# Altium footprint library OSCCC320X250X120N.PcbLib: 1 footprints
Each footprint in its own frame and in the unit in brackets; x right, y up, seen from the top. Pads: shape width x height; smd on the part's side, far side on the other; paste and mask are expansions set on the pad; w line width, h text height; cw(c..) or ccw(c..) is an arc to the next point about the centre after c.
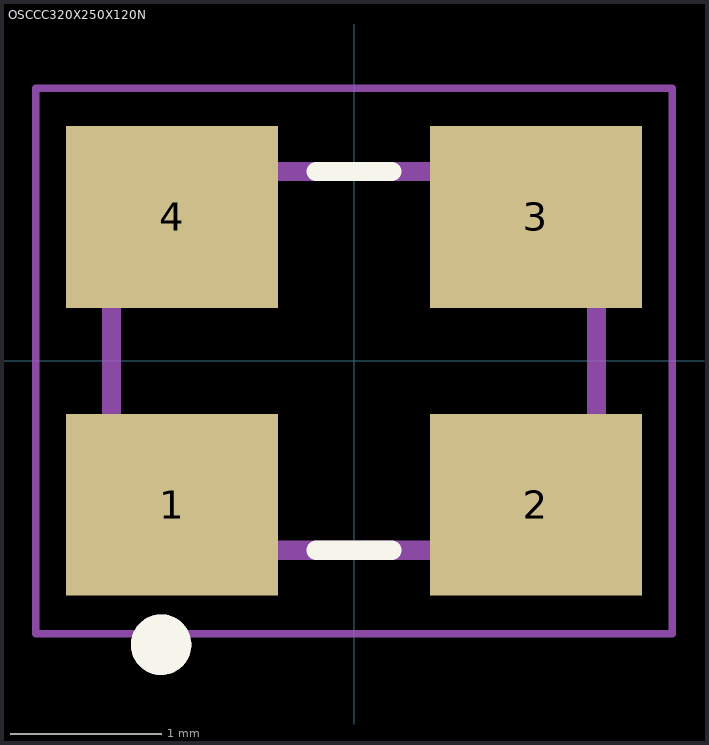
[diagram p0: the footprint, top view; thin cyan lines are the x and y axes]

## OSCCC320X250X120N [mm]
height 1.2
pads (4):
  rect 1.4x1.2 smd: 1(-1.2,-0.95) 2(1.2,-0.95) 3(1.2,0.95) 4(-1.2,0.95)
Top Overlay:
  circle w0.2: c-1.273,-1.873 r0.1
  lines w0.127: -0.25,-1.25 0.25,-1.25 ; -0.25,1.25 0.25,1.25
Mechanical 13:
  circle w0.2: c-1.273,-1.873 r0.1
  lines w0.127: -1.6,-1.25 1.6,-1.25 1.6,1.25 -1.6,1.25 -1.6,-1.25
Mechanical 15:
  lines w0.05: -2.1,-1.8 2.1,-1.8 2.1,1.8 -2.1,1.8 -2.1,-1.8
3D body "SG-8101CE.stp": height 1.03, standoff -0.01, extent -1.62,-1.27 1.62,1.27